# Altium schematic symbol library LTC1156.SchLib: 1 symbol
Pins are listed as number, name and electrical type; pins without a type are passive.

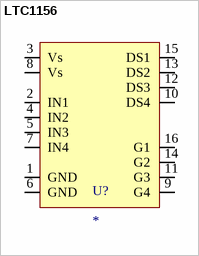
[diagram p0: symbol LTC1156]

## LTC1156
designator U?
Part No.: LTC1156CN; Vendor: Linear Technology; Price Est.: $5.80; Manufacturer: Linear Technology
pins: 1 GND, 2 IN1, 3 Vs, 4 IN2, 5 IN3, 6 GND, 7 IN4, 8 Vs, 9 G4, 10 DS4, 11 G3, 12 DS3, 13 DS2, 14 G2, 15 DS1, 16 G1